# Altium schematic symbol library power2.SchLib: 1 symbol
Pins are listed as number, name and electrical type; pins without a type are passive.

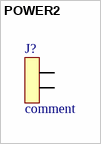
[diagram p0: symbol POWER2]

## POWER2
designator J?, comment comment
connecteur alim 2 pôles
footprint POWER2
footprint HE14_2
footprint AMP_2
footprint JST-EH-2
pins: 1, 2